# EAGLE library part TPS2113ADRBR (library TPS2113ADRBR)
Power Switch ICs - Power Distribution Autoswitching Pwr Mux Source: Datasheet <https://www.ti.com/lit/gpn/TPS2113A>
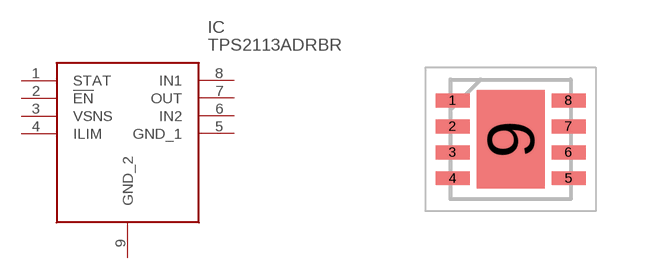
[diagram p0: symbol with the pads of SON65P300X300X100-9N; footprint SON65P300X300X100-9N]

Designator prefix IC

## TPS2113ADRBR (Description: Power Switch ICs - Power Distribution Autoswitching Pwr Mux; Height: 1mm; Manufacturer_Name: Texas Instruments; Manufacturer_Part_Number: TPS2113ADRBR; Mouser_Part_Number: 595-TPS2113ADRBR; Mouser_Price-Stock: https://www.mouser.co.uk/ProductDetail/Texas-Instruments/TPS2113ADRBR?qs=g%2FrhRe7LVpRsXhRevikZ7Q%3D%3D)  [SON65P300X300X100-9N]
1  STAT
2  !EN
3  VSNS
4  ILIM
5  GND_1
6  IN2
7  OUT
8  IN1
9  GND_2

## Footprint SON65P300X300X100-9N (pad centres in mm)
DRB0008B
smd 0.85 x 0.35: 1 -1.45,0.975; 2 -1.45,0.325; 3 -1.45,-0.325; 4 -1.45,-0.975; 5 1.45,-0.975; 6 1.45,-0.325; 7 1.45,0.325; 8 1.45,0.975
smd 1.7 x 2.45: 9 0,0